# EAGLE library part HD44780LCD (library jason-test)
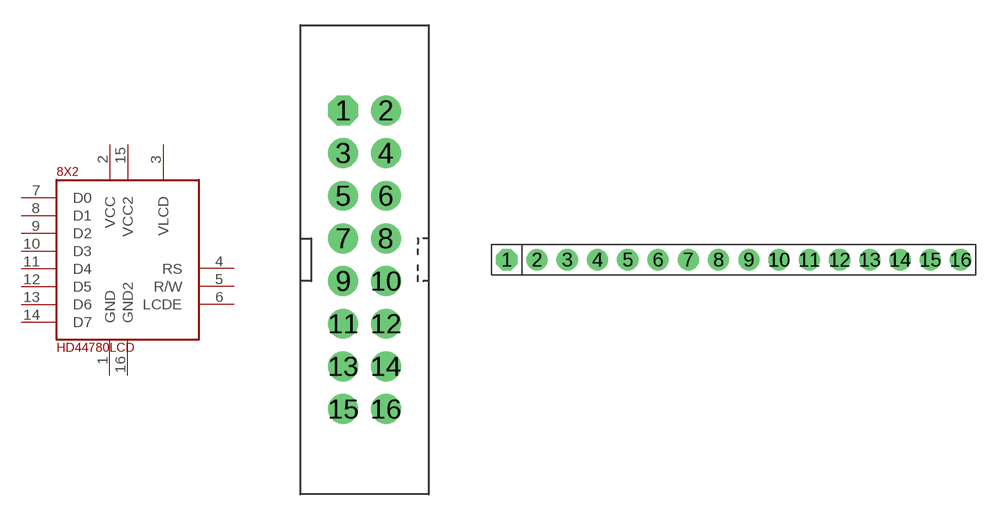
[diagram p20: symbol with the pads of 8X2LCD; footprints 8X2LCD, 16X1LCD]

Designator prefix 8X2

## HD44780LCD8X2  [8X2LCD]
1  GND  pwr
2  VCC  pwr
3  VLCD  pwr
4  RS  in
5  R/W  in
6  LCDE  in
7  D0
8  D1
9  D2
10  D3
11  D4
12  D5
13  D6
14  D7
15  VCC2  pwr
16  GND2  pwr

## HD44780LCD16X1  [16X1LCD]
Pads as for 8X2LCD

## HD44780LCD16X1FPC  [16X1LCD_FPC]
Pads as for 8X2LCD

## Footprint 8X2LCD (pad centres in mm)
drill 1 pad 1.778 octagon: 1 -1.27,8.89
drill 1 pad 1.778 round: 2 1.27,8.89; 3 -1.27,6.35; 4 1.27,6.35; 5 -1.27,3.81; 6 1.27,3.81; 7 -1.27,1.27; 8 1.27,1.27; 9 -1.27,-1.27; 10 1.27,-1.27; 11 -1.27,-3.81; 12 1.27,-3.81; 13 -1.27,-6.35; 14 1.27,-6.35; 15 -1.27,-8.89; 16 1.27,-8.89

## Footprint 16X1LCD (pad centres in mm)
drill 1 pad 1.778 octagon: 1 -19.05,0
drill 1 pad 1.778 round: 2 -16.51,0; 3 -13.97,0; 4 -11.43,0; 5 -8.89,0; 6 -6.35,0; 7 -3.81,0; 8 -1.27,0; 9 1.27,0; 10 3.81,0; 11 6.35,0; 12 8.89,0; 13 11.43,0; 14 13.97,0; 15 16.51,0; 16 19.05,0

## Footprint 16X1LCD_FPC (pad centres in mm)
smd 0.61 x 2: 1 -7.5,1; 2 -6.5,1; 3 -5.5,1; 4 -4.5,1; 5 -3.5,1; 6 -2.5,1; 7 -1.5,1; 8 -0.5,1; 9 0.5,1; 10 1.5,1; 11 2.5,1; 12 3.5,1; 13 4.5,1; 14 5.5,1; 15 6.5,1; 16 7.5,1
smd 2.68 x 3.6: P$17 -11.5,-2; P$18 11.5,-2